# Altium schematic symbol library Transceiver_SoC GOST.SchLib: 4 symbols
Pins are listed as number, name and electrical type; pins without a type are passive.

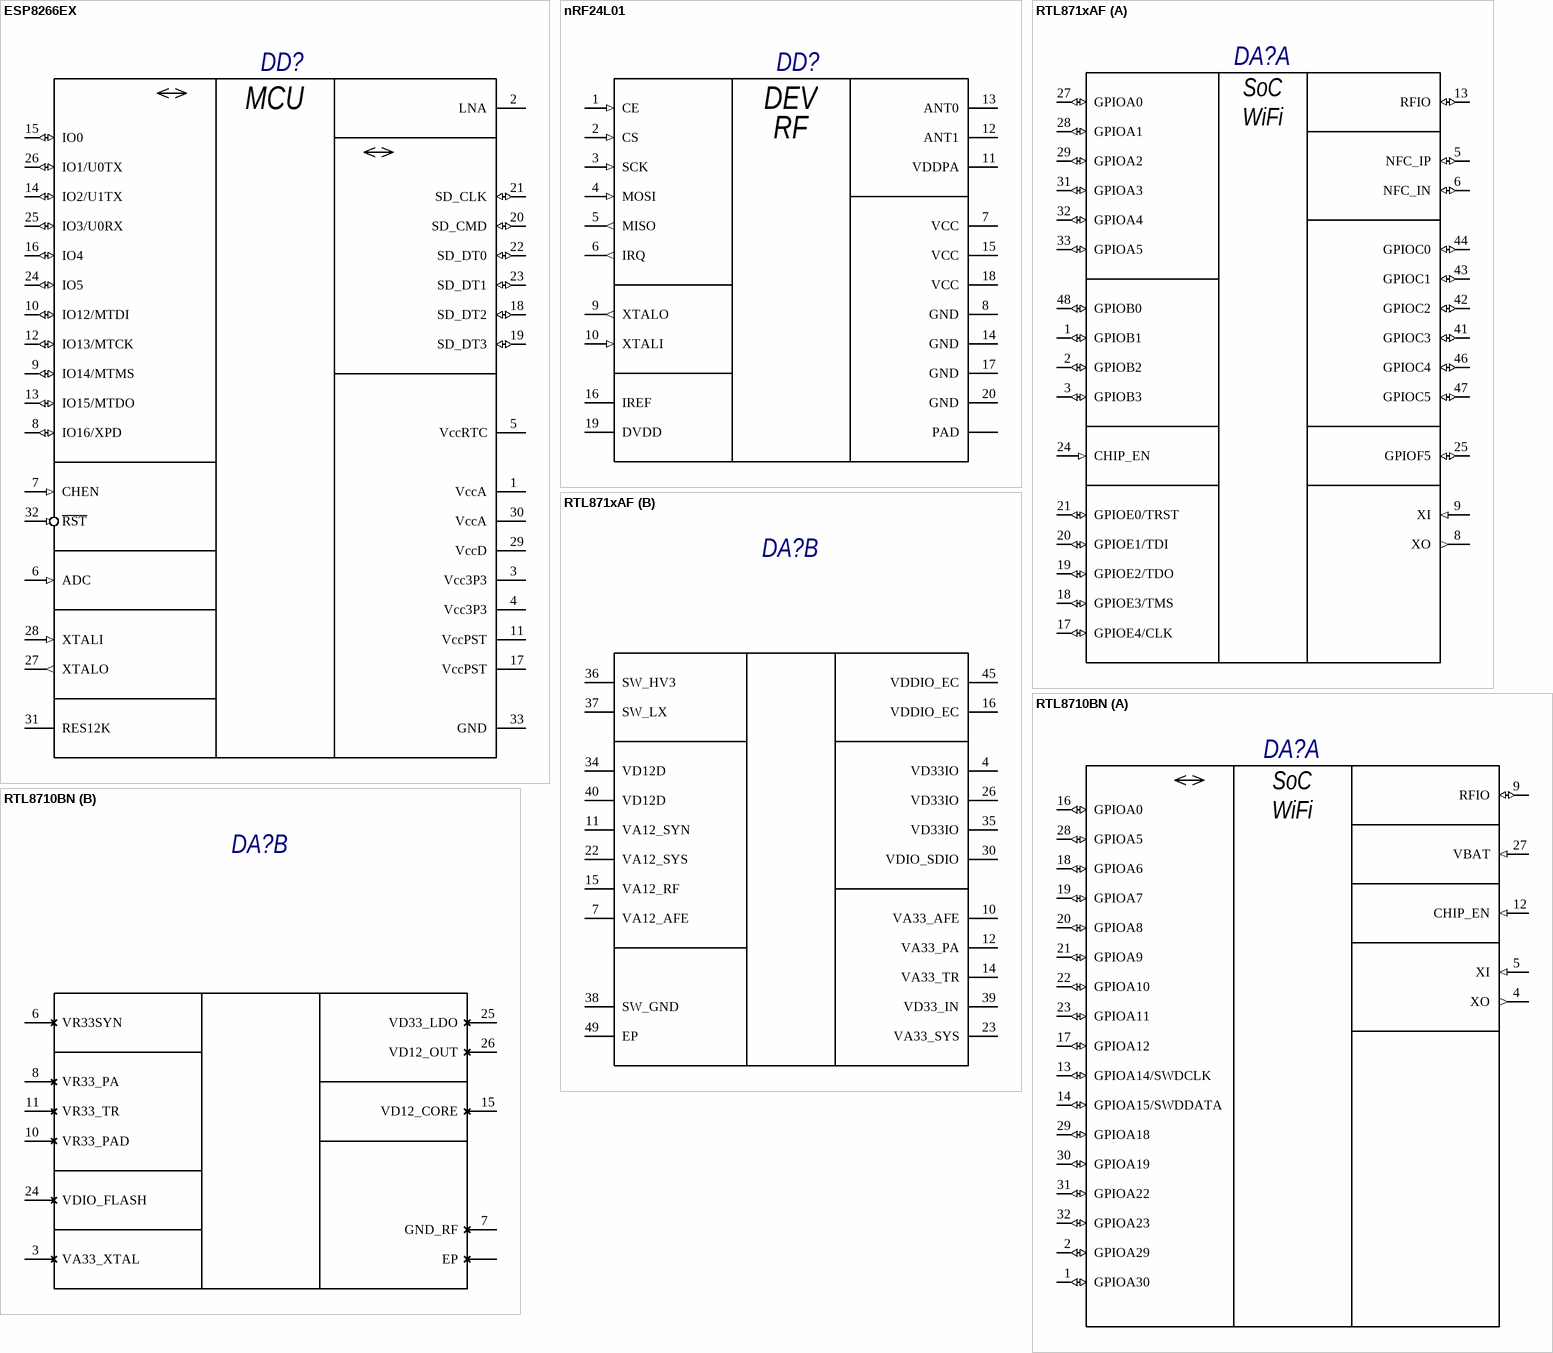
[diagram p0: symbols ESP8266EX to RTL8710BN]

## ESP8266EX
designator DD?
Wi-Fi 802.11 b/g/n SoC; Value: ESP8266EX; Published: 07.01.2015; Publisher: Andrew Danich; Type: Микросхема
pins: 1 VccA (power), 2 LNA, 3 Vcc3P3 (power), 4 Vcc3P3 (power), 5 VccRTC (power), 6 ADC (in), 7 CHEN (in), 8 IO16/XPD (io), 9 IO14/MTMS (io), 10 IO12/MTDI (io), 11 VccPST (power), 12 IO13/MTCK (io), 13 IO15/MTDO (io), 14 IO2/U1TX (io), 15 IO0 (io), 16 IO4 (io), 17 VccPST (power), 18 SD_DT2 (io), 19 SD_DT3 (io), 20 SD_CMD (io), 21 SD_CLK (io), 22 SD_DT0 (io), 23 SD_DT1 (io), 24 IO5 (io), 25 IO3/U0RX (io), 26 IO1/U0TX (io), 27 XTALO (out), 28 XTALI (in), 29 VccD (power), 30 VccA (power), 31 RES12K, 32 ~{RST} (in), 33 GND (power)
text: MCU

## nRF24L01
designator DD?
Single Chip 2.4GHz Transceiver; Value: nRF24L01; Published: 17.12.2014; Publisher: Andrew Danich; Type: Микросхема
pins: 1 CE (in), 2 CS (in), 3 SCK (in), 4 MOSI (in), 5 MISO (out), 6 IRQ (out), 7 VCC (power), 8 GND (power), 9 XTALO (out), 10 XTALI (in), 11 VDDPA (power), 12 ANT1, 13 ANT0, 14 GND (power), 15 VCC (power), 16 IREF, 17 GND (power), 18 VCC (power), 19 DVDD (power), 20 GND (power), 21 PAD (power)
text: DEV; RF

## RTL871xAF
designator DA?
Published: 06.01.2017; Publisher: Andrew Danich; Type: Микросхема
part A pins: 1 GPIOB1 (io), 2 GPIOB2 (io), 3 GPIOB3 (io), 5 NFC_IP (io) "NFC", 6 NFC_IN (io) "NFC", 8 XO (out) "Crystal, Output 40MHz", 9 XI (in) "Crystal, Input 40MHz", 13 RFIO (io) "WL RF Signal", 17 GPIOE4/CLK (io), 18 GPIOE3/TMS (io), 19 GPIOE2/TDO (io), 20 GPIOE1/TDI (io), 21 GPIOE0/TRST (io), 24 CHIP_EN (in) "Chip Enable/Reset", 25 GPIOF5 (io), 27 GPIOA0 (io), 28 GPIOA1 (io), 29 GPIOA2 (io), 31 GPIOA3 (io), 32 GPIOA4 (io), 33 GPIOA5 (io), 41 GPIOC3 (io), 42 GPIOC2 (io), 43 GPIOC1 (io), 44 GPIOC0 (io), 46 GPIOC4 (io), 47 GPIOC5 (io), 48 GPIOB0 (io)
part B pins: 4 VD33IO (power) "+3.3V for Digital IO", 7 VA12_AFE (power) "+1.2V Analog", 10 VA33_AFE (power) "+3.3V for Analog", 11 VA12_SYN (power) "+1.2V Analog", 12 VA33_PA (power) "+3.3V for Analog", 14 VA33_TR (power) "+3.3V for Analog", 15 VA12_RF (power) "+1.2V Analog", 16 VDDIO_EC (power) "GPIOE + GPIOC IO Power", 22 VA12_SYS (power) "+1.2V Analog", 23 VA33_SYS (power) "+3.3V for Analog", 26 VD33IO (power) "+3.3V for Digital IO", 30 VDIO_SDIO (power) "SDIO Bus IO Power", 34 VD12D (power) "+1.2V Digital", 35 VD33IO (power) "+3.3V for Digital IO", 36 SW_HV3 (power) "Switching Regulator Input", 37 SW_LX (power) "Switching Regulator Output", 38 SW_GND (power), 39 VD33_IN (power) "+3.3V for Analog", 40 VD12D (power) "+1.2V Digital", 45 VDDIO_EC (power) "GPIOE + GPIOC IO Power", 49 EP (power)
part A text: SoC; WiFi

## RTL8710BN
designator DA?
Published: 05.06.2017; Publisher: Andrew Danich; Type: Микросхема
part A pins: 1 GPIOA30 (io), 2 GPIOA29 (io), 4 XO (out) "Crystal, Output 40MHz", 5 XI (in) "Crystal, Input 40MHz", 9 RFIO (io) "WL RF Signal", 12 CHIP_EN (in) "Chip Enable/Reset", 13 GPIOA14/SWDCLK (io), 14 GPIOA15/SWDDATA (io), 16 GPIOA0 (io), 17 GPIOA12 (io), 18 GPIOA6 (io), 19 GPIOA7 (io), 20 GPIOA8 (io), 21 GPIOA9 (io), 22 GPIOA10 (io), 23 GPIOA11 (io), 27 VBAT (in) "ADC input pin, 5V tolerance", 28 GPIOA5 (io), 29 GPIOA18 (io), 30 GPIOA19 (io), 31 GPIOA22 (io), 32 GPIOA23 (io)
part B pins: 3 VA33_XTAL (power), 6 VR33SYN (power), 7 GND_RF (power), 8 VR33_PA (power), 10 VR33_PAD (power), 11 VR33_TR (power), 15 VD12_CORE (power), 24 VDIO_FLASH (power), 25 VD33_LDO (power), 26 VD12_OUT (power) "1.2V output from Linear Regulator", 33 EP (power)
part A text: SoC; WiFi